# EAGLE library part OBD2 (library OBD2)
r/a 4mm pitch connector Source: Datasheet <https://www.obd2-shop.eu/files/obd_pcb-th.pdf>
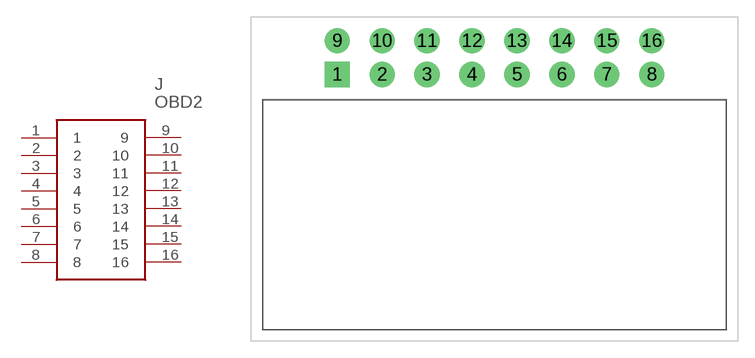
[diagram p0: symbol with the pads of OBD2; footprint OBD2]

Designator prefix J

## OBD2 (Description: r/a 4mm pitch connector; Height: 18mm; Manufacturer_Name: Comtech; Manufacturer_Part_Number: OBD2)  [OBD2]
1  1
2  2
3  3
4  4
5  5
6  6
7  7
8  8
9  9
10  10
11  11
12  12
13  13
14  14
15  15
16  16

## Footprint OBD2 (pad centres in mm)
OBD2-1
drill 1.5 pad 2.25 square: 1 0,0
drill 1.5 pad 2.25: 2 4,0; 3 8,0; 4 12,0; 5 16,0; 6 20,0; 7 24,0; 8 28,0; 9 0,3; 10 4,3; 11 8,3; 12 12,3; 13 16,3; 14 20,3; 15 24,3; 16 28,3